# EAGLE library part UMSCHALTER_2POL (library Schalter_Taster)
Umschalter 2 Pol
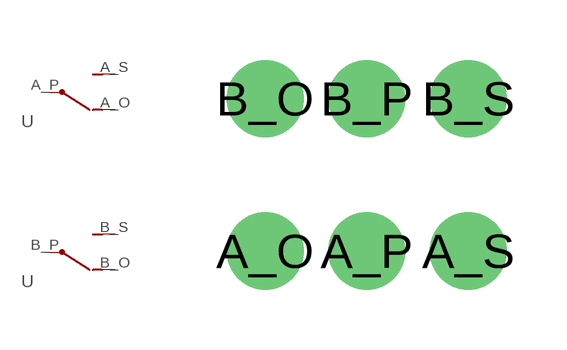
[diagram p0: symbol with the pads of UMSCHALTER_2POL; footprint UMSCHALTER_2POL]

Designator prefix -; gates A=UMSCHALTER_1POL B=UMSCHALTER_1POL

## UMSCHALTER_2POL  [UMSCHALTER_2POL]
A_O  A:O  pas
A_P  A:P  pas
A_S  A:S  pas
B_O  B:O  pas
B_P  B:P  pas
B_S  B:S  pas

## Footprint UMSCHALTER_2POL (pad centres in mm)
drill 1 pad 1.93: A_O -2.54,-1.27; A_P 0,-1.27; A_S 2.54,-1.27; B_O -2.54,2.54; B_P 0,2.54; B_S 2.54,2.54